# EAGLE library part DFPLAYER_MINI (library OPENBOT)
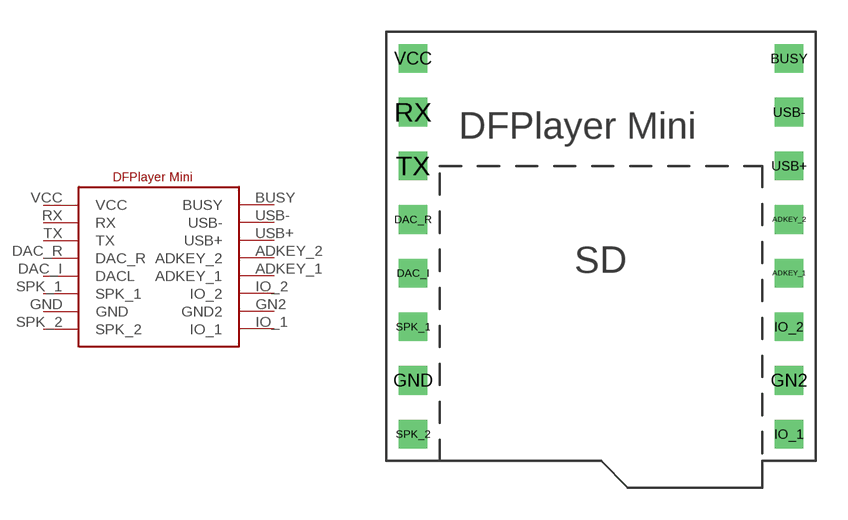
[diagram p1: symbol with the pads of DFPLAYER_MINI; footprint DFPLAYER_MINI]

Designator prefix -

## DFPLAYER_MINI  [DFPLAYER_MINI]
ADKEY_1  ADKEY_1
ADKEY_2  ADKEY_2
BUSY  BUSY
DAC_I  DACL
DAC_R  DAC_R
GN2  GND2
GND  GND
IO_1  IO_1
IO_2  IO_2
RX  RX
SPK_1  SPK_1
SPK_2  SPK_2
TX  TX
USB+  USB+
USB-  USB-
VCC  VCC

## Footprint DFPLAYER_MINI (pad centres in mm)
drill 0.85 square: ADKEY_1 8.89,-1.27; ADKEY_2 8.89,1.27; BUSY 8.89,8.89; DAC_I -8.89,-1.27; DAC_R -8.89,1.27; GN2 8.89,-6.35; GND -8.89,-6.35; IO_1 8.89,-8.89; IO_2 8.89,-3.81; RX -8.89,6.35; SPK_1 -8.89,-3.81; SPK_2 -8.89,-8.89; TX -8.89,3.81; USB+ 8.89,3.81; USB- 8.89,6.35; VCC -8.89,8.89